# Altium footprint library PcbLib1.1.PcbLib: 79 footprints (part 1 of 5)
Each footprint in its own frame and in the unit in brackets; x right, y up, seen from the top. Pads: shape width x height; smd on the part's side, far side on the other; paste and mask are expansions set on the pad; w line width, h text height; cw(c..) or ccw(c..) is an arc to the next point about the centre after c.
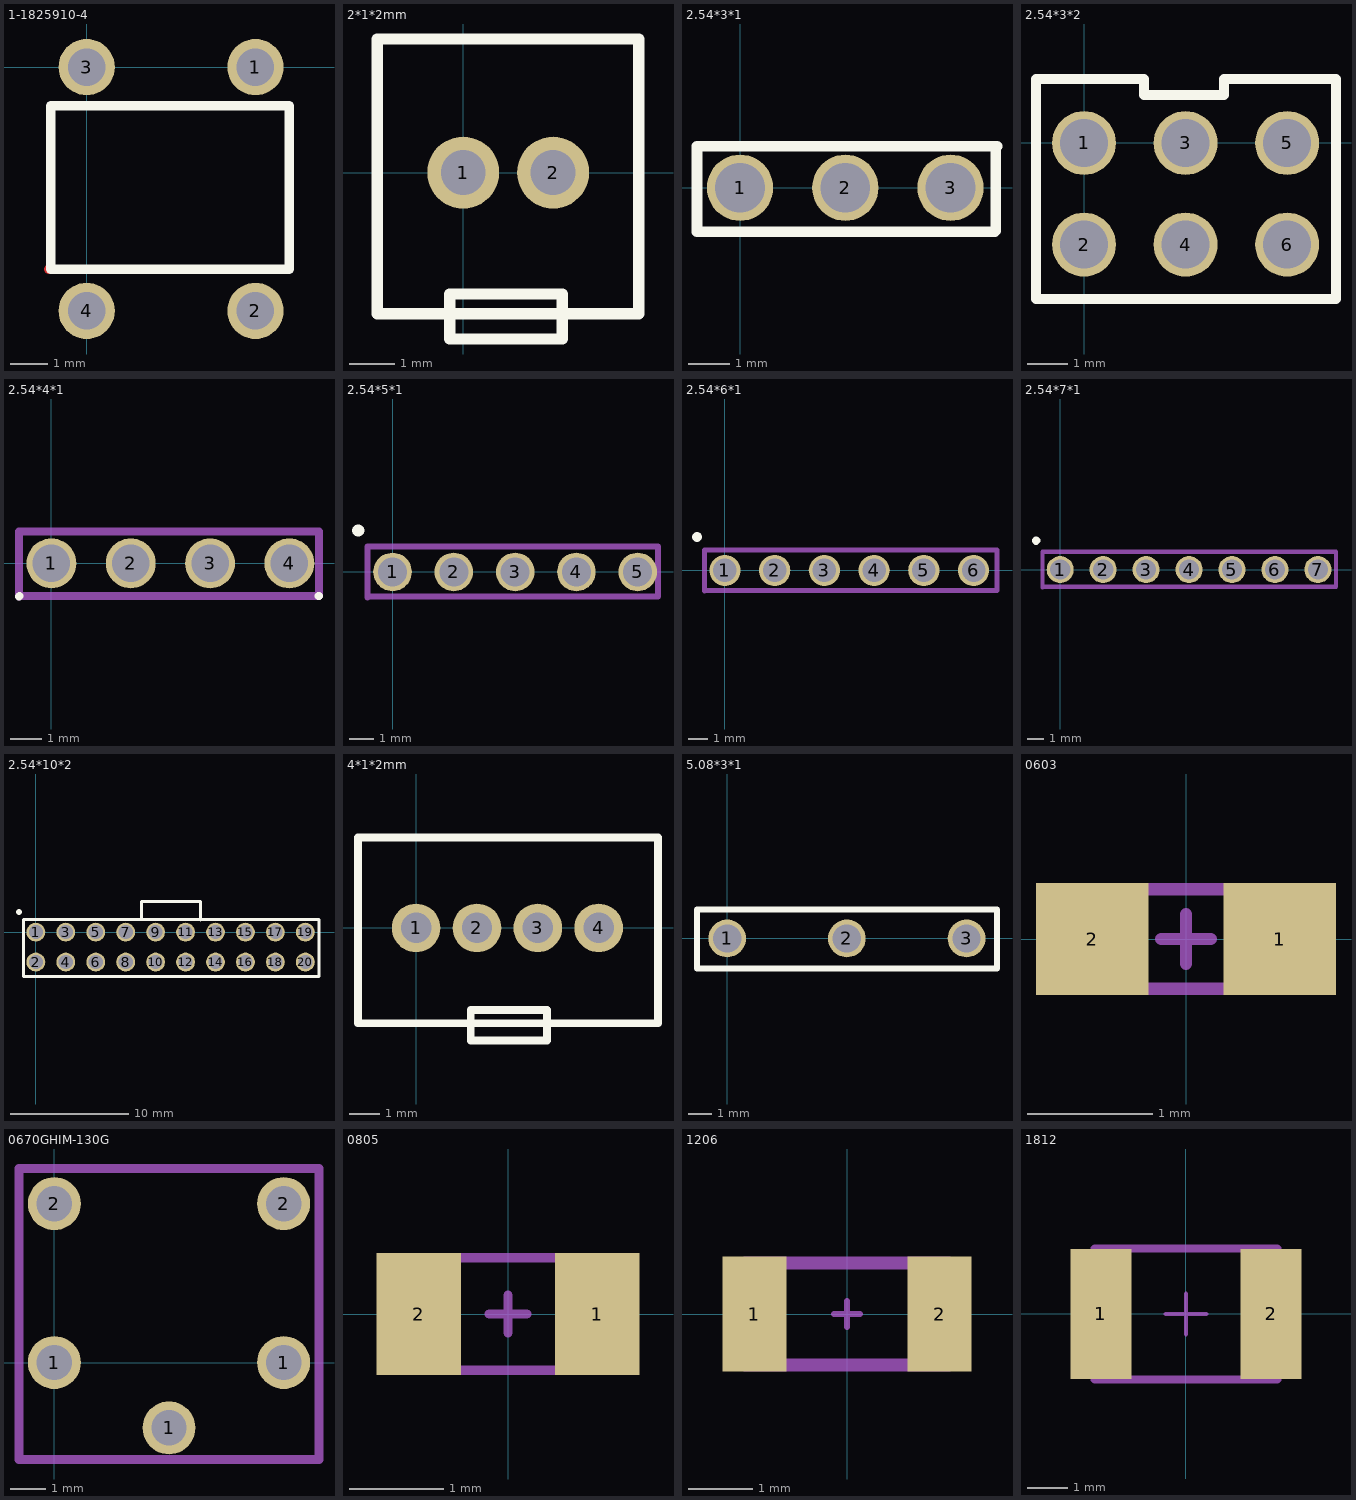
[diagram p0: the footprints below, top view; thin cyan lines are the x and y axes]

## 1-1825910-4 [mm]
height 10
pads (4):
  round 1.5 hole 1: 1(4.5,0) 2(4.5,-6.5) 3(0,0) 4(0,-6.5)
Top Layer:
  lines w0.254: -1.01,-5.39 -1,-5.38
Top Overlay:
  lines w0.254: -0.96,-5.39 5.4,-5.39 5.4,-1.03 -0.96,-1.03 -0.96,-5.39

## 2*1*2mm [mm]
height 5
pads (2):
  round 1.6 hole 1: 1(0,0) 2(2,0)
Top Overlay:
  lines w0.25: -1.91,-3.14 -1.91,2.97 3.9,2.97 3.9,-3.14 -1.91,-3.14
  lines w0.254: -0.3,-3.7 2.2,-3.7 2.2,-2.7 -0.3,-2.7 -0.3,-3.7
Top Solder:
  rectangle: 0.55,-0.7 1.45,0.7
Bottom Solder:
  rectangle: 0.55,-0.7 1.45,0.7

## 2.54*3*1 [mm]
height 5
pads (3):
  round 1.6 hole 1.2: 1(0,0) 2(2.54,0) 3(5.08,0)
Top Overlay:
  lines w0.25: -1.04,-1.06 6.15,-1.06
  lines w0.254: -1.04,-1.06 -1.04,1 6.2,1 ; 6.16,-1.05 6.17,-1.04 6.17,1

## 2.54*3*2 [mm]
height 5
pads (6):
  round 1.6 hole 1.2: 1(0,0) 3(2.54,0) 4(2.54,-2.54) 5(5.08,0) 6(5.08,-2.54)
  round 1.6 hole 1.2 paste+0: 2(0,-2.54)
Top Overlay:
  lines w0.25: -1.2,-3.9 6.3,-3.9
  lines w0.254: -1.2,-3.9 -1.2,-1.26 -1.2,1.6 1.5,1.6 1.5,1.2 3.5,1.2 3.5,1.6 6.3,1.6 6.3,-0.71 6.3,-3.9

## 2.54*4*1 [mm]
pads (4):
  round 1.6 hole 1.2: 1(0,0) 2(2.54,0) 3(5.08,0) 4(7.62,0)
Top Overlay:
  lines w0.254: -1.04,-1.06 -1.03,-1.05 ; 8.56,-1.05 8.57,-1.04
Mechanical 15:
  lines w0.254: -1.04,-1.06 -1.04,1.02 8.57,1.02 8.57,-1.04 ; -1.03,-1.05 8.56,-1.05

## 2.54*5*1 [mm]
pads (5):
  round 1.6 hole 1.2: 1(0,0) 2(2.54,0) 3(5.08,0) 4(7.62,0) 5(10.16,0)
Top Overlay:
  lines w0.5: -1.43,1.71 -1.42,1.72
Mechanical 15:
  lines w0.254: -1.04,-1.06 -1.04,1.02 ; -1.04,-1.02 11,-1.02 11,1.05 -1.04,1.05

## 2.54*6*1 [mm]
pads (6):
  round 1.6 hole 1.2: 1(0,0) 2(2.54,0) 3(5.08,0) 4(7.62,0) 5(10.16,0) 6(12.7,0)
Top Overlay:
  lines w0.5: -1.43,1.71 -1.42,1.72
Mechanical 15:
  lines w0.254: -1.04,-1.06 -1.04,1.02 ; -1.04,-1.02 13.9,-1.02 13.9,1.05 -1.04,1.05

## 2.54*7*1 [mm]
pads (7):
  round 1.6 hole 1.2: 1(0,0) 2(2.54,0) 3(5.08,0) 4(7.62,0) 5(10.16,0) 6(12.7,0) 7(15.24,0)
Top Overlay:
  lines w0.5: -1.43,1.71 -1.42,1.72
Mechanical 15:
  lines w0.254: -1.04,-1.06 -1.04,1.02 ; -1.04,-1.02 16.3,-1.02 ; -1.04,1.05 16.31,1.05 16.31,-1.01

## 2.54*10*2 [mm]
height 10
pads (20):
  round 1.6 hole 1.2: 1(0,0) 2(0,-2.54) 3(2.54,0) 4(2.54,-2.54) 5(5.08,0) 6(5.08,-2.54) 7(7.62,0) 8(7.62,-2.54) 9(10.16,0) 10(10.16,-2.54) 11(12.7,0) 12(12.7,-2.54) 13(15.24,0) 14(15.24,-2.54) 15(17.78,0) 16(17.78,-2.54) 17(20.32,0) 18(20.32,-2.54) 19(22.86,0) 20(22.86,-2.54)
Top Overlay:
  lines w0.254: -1.04,1.02 -1.04,-3.75 24.02,-3.75 24.02,1.05 -1.04,1.05 ; 8.82,1.06 8.95,1.06 8.95,2.58 13.86,2.58 13.96,2.58 13.96,1.03
  lines w0.5: -1.43,1.71 -1.42,1.72

## 4*1*2mm [mm]
height 5
pads (4):
  round 1.6 hole 1: 1(0,0) 2(2,0) 3(4,0) 4(6,0)
Top Overlay:
  lines w0.25: -1.91,-3.14 7.95,-3.14 7.95,2.97 -1.91,2.97 -1.91,-3.14
  lines w0.254: 1.8,-3.7 4.3,-3.7 4.3,-2.7 1.8,-2.7 1.8,-3.7
Top Solder:
  rectangle: 0.65,-0.65 5.4,0.6
Bottom Solder:
  rectangle: 0.65,-0.65 5.4,0.6

## 5.08*3*1 [mm]
height 5
pads (3):
  round 1.6 hole 1.2: 1(0,0) 2(5.08,0) 3(10.16,0)
Top Overlay:
  lines w0.25: -1.28,-1.27 11.45,-1.27
  lines w0.254: -1.28,-1.27 -1.28,1.22 11.45,1.22 11.45,-1.27

## 0603 [mm]
pads (2):
  rect 0.9x0.9 smd: 1(0.75,0) 2(-0.75,0)
Mechanical 15:
  lines w0.1: -0.2,0 0.2,0 ; 0,-0.2 0,0.2 ; -0.8,-0.4 0.8,-0.4 0.8,0.4 -0.8,0.4 -0.8,-0.4

## 0670GHIM-130G [mm]
height 7.1
pads (5):
  round 1.5 hole 1: 1(0,0) 1(3.25,-1.85) 1(6.5,0) 2(0,4.5) 2(6.5,4.5)
Mechanical 15:
  lines w0.25: -1,-2.75 7.5,-2.75 7.5,5.5 -1,5.5 -1,-2.75

## 0805 [mm]
pads (2):
  rect 0.9x1.3 smd: 1(0.95,0) 2(-0.95,0)
Mechanical 15:
  lines w0.1: -0.2,0 0.2,0 ; 0,-0.2 0,0.2 ; -1,-0.6 1,-0.6 1,0.6 -1,0.6 -1,-0.6

## 1206 [mm]
height 1.5
pads (2):
  rect 1x1.8 smd: 1(-1.45,0) 2(1.45,0)
Mechanical 15:
  lines w0.1: -0.2,0 0.2,0 ; 0,-0.2 0,0.2
  lines w0.2: -1.6,-0.8 -1.6,0.8 1.6,0.8 1.6,-0.8 -1.6,-0.8

## 1812 [mm]
pads (2):
  rect 1.5x3.2 smd: 1(-2.1,0) 2(2.1,0)
Mechanical 15:
  lines w0.1: -0.5,0 0.5,0 ; 0,-0.5 0,0.5
  lines w0.2: -2.25,-1.62 2.25,-1.62 2.25,1.62 -2.25,1.62 -2.25,-1.62